# Altium footprint library 388D_Control_v1.PcbLib: 60 footprints (part 3 of 4)
Each footprint in its own frame and in the unit in brackets; x right, y up, seen from the top. Pads: shape width x height; smd on the part's side, far side on the other; paste and mask are expansions set on the pad; w line width, h text height; cw(c..) or ccw(c..) is an arc to the next point about the centre after c.
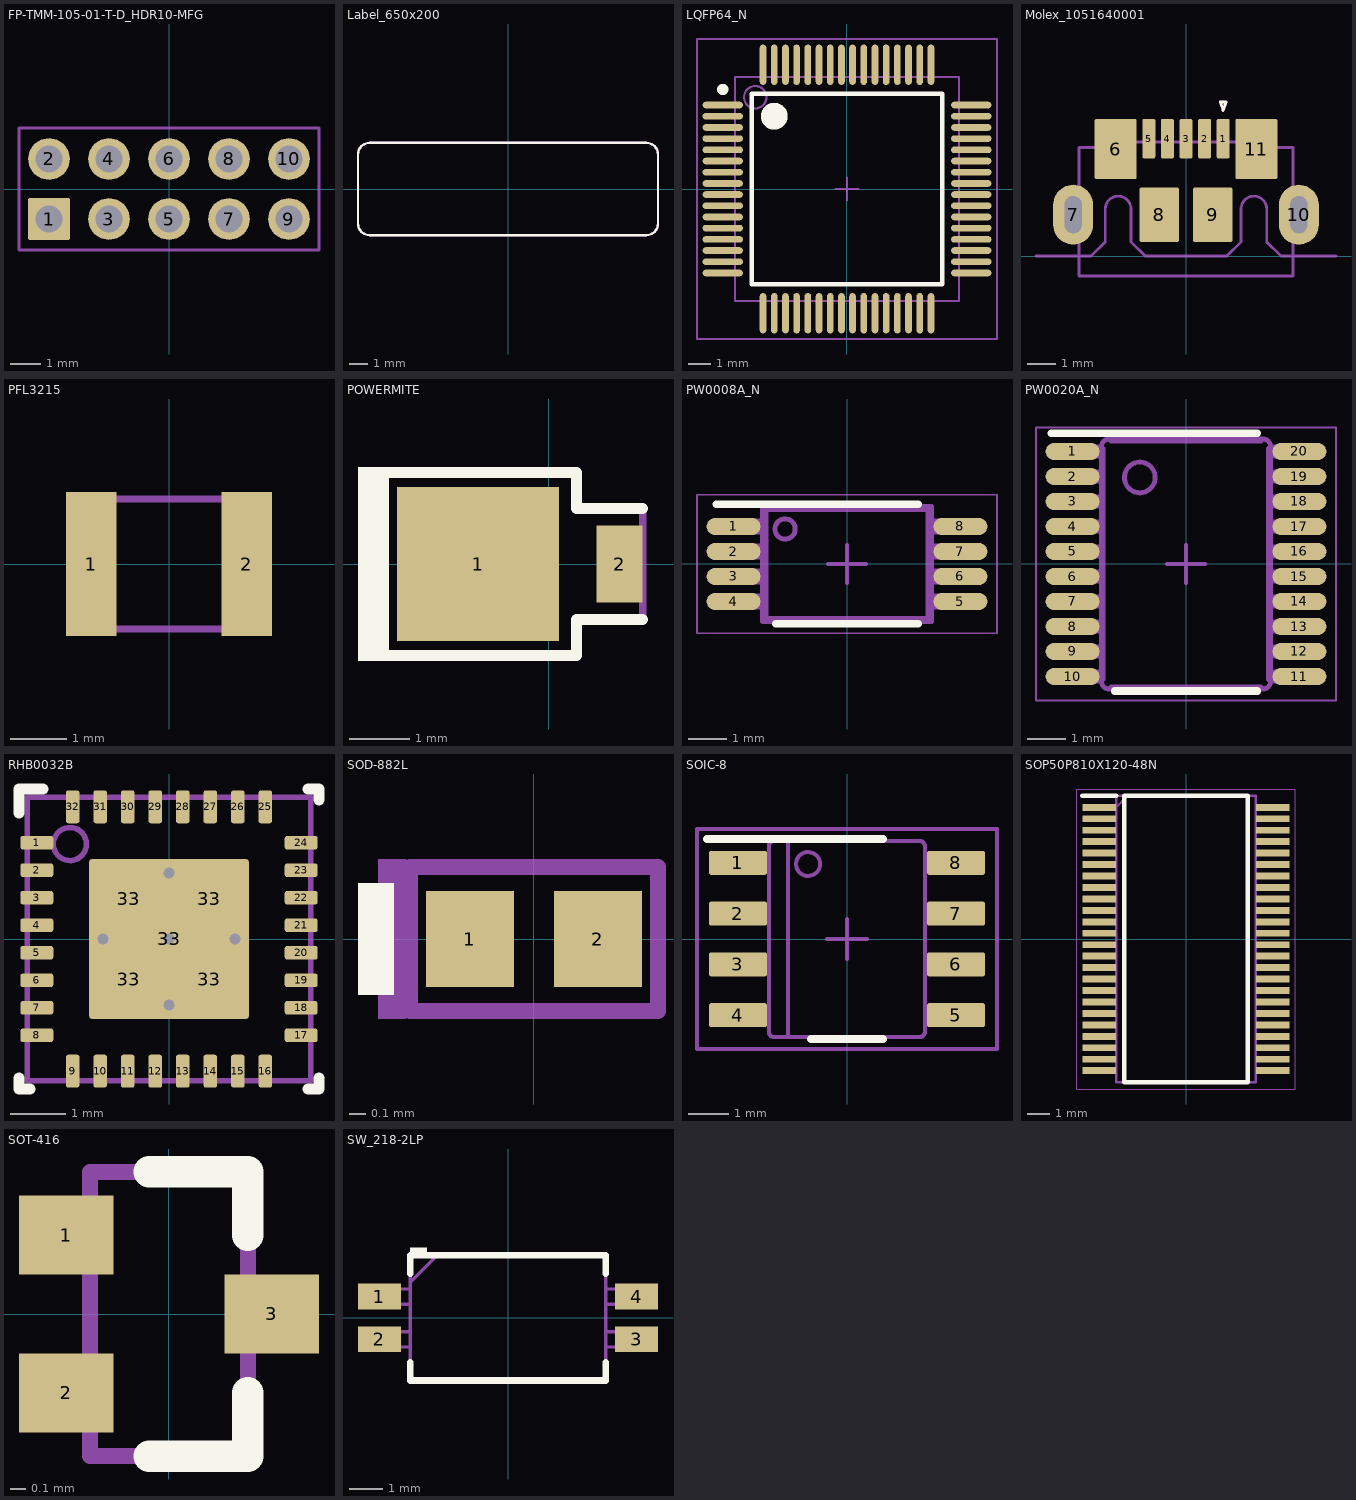
[diagram p2: the footprints below, top view; thin cyan lines are the x and y axes]

## FP-TMM-105-01-T-D_HDR10-MFG [mm]
pads (10):
  rrect7% 1.39x1.39 hole 0.89 paste-2539.97 mask+0: 1(-4,-1)
  round 1.39 hole 0.89 paste-2539.97 mask+0: 2(-4,1) 3(-2,-1) 4(-2,1) 5(0,-1) 6(0,1) 7(2,-1) 8(2,1) 9(4,-1) 10(4,1)
Mechanical 5:
  lines w0.1: -5,-2.035 5,-2.035 5,2.035 -5,2.035 -5,-2.035
  text ".Designator" at 0,0 h0.5
3D body "Conn_TMM-105-01-T-D_HDR10.STEP": height 0.25, standoff 0, extent -5.1,-2.135 5.1,2.135

## Label_650x200 [mil]
pads (1):
  round 1 on Mech13: 0(0,0)
Top Overlay:
  lines w5: -325,-75 ccw(c-300,-75) -300,-100 300,-100 ccw(c300,-75) 325,-75 325,75 ccw(c300,75) 300,100 -300,100 ccw(c-300,75) -325,75 -325,-75
Mechanical 5:
  lines w5: -325,-75 ccw(c-300,-75) -300,-100 300,-100 ccw(c300,-75) 325,-75 325,75 ccw(c300,75) 300,100 -300,100 ccw(c-300,75) -325,75 -325,-75
  text ".Designator" at -60,-20 h40
3D body: height 1, standoff 0, extent -325.02,-100.02 325.02,100.02

## LQFP64_N [mm]
pads (64):
  oval 1.8x0.3 smd: 1(-5.55,3.75) 2(-5.55,3.25) 3(-5.55,2.75) 4(-5.55,2.25) 5(-5.55,1.75) 6(-5.55,1.25) 7(-5.55,0.75) 8(-5.55,0.25) 9(-5.55,-0.25) 10(-5.55,-0.75) 11(-5.55,-1.25) 12(-5.55,-1.75) 13(-5.55,-2.25) 14(-5.55,-2.75) 15(-5.55,-3.25) 16(-5.55,-3.75) 33(5.55,-3.75) 34(5.55,-3.25) 35(5.55,-2.75) 36(5.55,-2.25) 37(5.55,-1.75) 38(5.55,-1.25) 39(5.55,-0.75) 40(5.55,-0.25) 41(5.55,0.25) 42(5.55,0.75) 43(5.55,1.25) 44(5.55,1.75) 45(5.55,2.25) 46(5.55,2.75) 47(5.55,3.25) 48(5.55,3.75)
  oval 0.3x1.8 smd: 17(-3.75,-5.55) 18(-3.25,-5.55) 19(-2.75,-5.55) 20(-2.25,-5.55) 21(-1.75,-5.55) 22(-1.25,-5.55) 23(-0.75,-5.55) 24(-0.25,-5.55) 25(0.25,-5.55) 26(0.75,-5.55) 27(1.25,-5.55) 28(1.75,-5.55) 29(2.25,-5.55) 30(2.75,-5.55) 31(3.25,-5.55) 32(3.75,-5.55) 49(3.75,5.55) 50(3.25,5.55) 51(2.75,5.55) 52(2.25,5.55) 53(1.75,5.55) 54(1.25,5.55) 55(0.75,5.55) 56(0.25,5.55) 57(-0.25,5.55) 58(-0.75,5.55) 59(-1.25,5.55) 60(-1.75,5.55) 61(-2.25,5.55) 62(-2.75,5.55) 63(-3.25,5.55) 64(-3.75,5.55)
Top Overlay:
  circle w0.6: c-3.25,3.25 r0.3
  circle w0.25: c-5.55,4.45 r0.125
  lines w0.2: -4.25,-4.25 4.25,-4.25 4.25,4.25 -4.25,4.25 -4.25,-4.25
Mechanical 5:
  circle w0.1: c-4.1,4.1 r0.5
  lines w0.1: -5,-5 5,-5 5,5 -5,5 -5,-5
  text ".Designator" at 0.745,-1.652 h1.02
Mechanical 15:
  lines w0.1: -0.5,0 0.5,0 ; 0,-0.5 0,0.5 ; -6.7,-6.7 6.7,-6.7 6.7,6.7 -6.7,6.7 -6.7,-6.7
3D body: height 1.6, standoff 0, extent -5,-5 5,5

## Molex_1051640001 [mm]
pads (11):
  rrect22% 0.45x1.38 smd: 1(1.3,4.11) 2(0.65,4.11) 3(0,4.11) 4(-0.65,4.11) 5(-1.3,4.11)
  rrect7% 1.475x2.1 smd: 6(-2.462,3.75) 11(2.462,3.75)
  rrect100% 1.4x2.1 hole 0.6 slot 1.3 at 90 deg: 7(-3.95,1.45) 10(3.95,1.45)
  rrect7% 1.375x1.9 smd: 8(-0.937,1.45) 9(0.937,1.45)
Top Overlay:
  lines w0.1: 1.2,5.4 1.4,5.4 1.3,5.1 1.2,5.4
Mechanical 1:
  lines w0.1: -5.25,0 -3.325,0 -2.825,0.5 -2.825,1.65 cw(c-2.375,1.65) -1.925,1.65 -1.925,0.5 -1.425,0 -1.4,0 1.4,0 1.425,0 1.925,0.5 1.925,1.65 cw(c2.375,1.65) 2.825,1.65 2.825,0.5 3.325,0 5.25,0
Mechanical 5:
  lines w0.1: -3.75,1 -3.871,1 -4.1,1 -4.1,1.9 -3.871,1.9 -3.75,1.9 ; -1.425,4 -1.425,4.467 -1.175,4.467 -1.175,4 ; -0.775,4 -0.775,4.467 -0.525,4.467 -0.525,4 ; -0.125,4 -0.125,4.467 0.125,4.467 0.125,4 ; 0.525,4 0.525,4.467 0.775,4.467 0.775,4 ; 1.175,4 1.175,4.467 1.425,4.467 1.425,4 ; 3.75,1 3.871,1 4.1,1 4.1,1.9 3.871,1.9 3.75,1.9 ; -3.75,-0.7 -3.633,-0.7 -3.089,-0.7 -2.806,-0.7 2.806,-0.7 3.089,-0.7 3.633,-0.7 3.75,-0.7 3.75,3.8 3.633,3.8 3.089,3.8 3,3.8 3,4 2.806,4 -2.806,4 -3,4 -3,3.8 -3.089,3.8 -3.633,3.8 -3.75,3.8 -3.75,-0.7 ; 1.2,5.4 1.3,5.1 1.4,5.4 1.2,5.4
  text ".Designator" at 0.959,2.775 h1.85
3D body "1051640001.stp": height 2.45, standoff -0.8, extent -4.1,-0.7 4.1,4.467

## PCBComponent_1 [mm]

## PCBComponent_1 - duplicate [mm]

## PFL3215 [mm]
pads (2):
  rect 0.89x2.54 smd: 1(-1.37,0) 2(1.37,0)
Mechanical 5:
  lines w0.127: -1.219,-1.143 -1.219,1.143 1.219,1.143 1.219,-1.143 -1.219,-1.143
  text ".Designator" at -0.9,-0.2 h0.51
3D body: height 1.5, standoff 0, extent -1.219,-1.142 1.219,1.142

## POWERMITE [mil]
pads (2):
  rect 105x100 smd: 1(-46,0)
  rect 30x50 smd: 2(46,0)
Top Overlay:
  rectangle: -124.01,-63 -104.01,63
  lines w7: -109.7,-59.5 -19,-59.5 18,-59.5 18,-36 61,-36 ; -109.7,59.5 -19,59.5 18,59.5 18,36 61,36
Mechanical 5:
  rectangle: -124.01,-63 -104.01,63
  lines w5: -109.7,-59.5 -19,-59.5 18,-59.5 18,-36 61,-36 61,36 18,36 18,59.5 -19,59.5 -109.7,59.5
  text ".Designator" at -90,-11 h30
3D body "PowerMite.stp": height 45.31, standoff 0, extent -94.48,-40.35 59.06,40.36

## PW0008A_N [mm]
pads (8):
  oval 1.4x0.45 smd: 1(-2.95,0.975) 2(-2.95,0.325) 3(-2.95,-0.325) 4(-2.95,-0.975) 5(2.95,-0.975) 6(2.95,-0.325) 7(2.95,0.325) 8(2.95,0.975)
Top Overlay:
  lines w0.2: -3.4,1.55 1.85,1.55 ; -1.85,-1.55 1.85,-1.55
Mechanical 5:
  lines w0.127: -2.2,-1.5 -2.2,-1.125 ; -2.2,-1.5 -2.11,-1.41 ; -2.2,-1.5 2.2,-1.5 ; -2.2,-1.125 -2.2,-0.825 ; -2.2,-1.125 -2.4,-1.125 -2.669,-1.125 -2.785,-1.125 -2.856,-1.125 -3.228,-1.125 -3.228,-0.825 -2.856,-0.825 -2.785,-0.825 -2.669,-0.825 -2.4,-0.825 -2.2,-0.825 ; -2.2,-0.825 -2.2,-0.475 ; -2.2,-0.475 -2.2,-0.175 ; -2.2,-0.475 -2.4,-0.475 -2.669,-0.475 -2.785,-0.475 -2.856,-0.475 -3.228,-0.475 -3.228,-0.175 -2.856,-0.175 -2.785,-0.175 -2.669,-0.175 -2.4,-0.175 -2.2,-0.175 ; -2.2,-0.175 -2.2,0.175 ; -2.2,0.175 -2.4,0.175 -2.669,0.175 -2.785,0.175 -2.856,0.175 -3.228,0.175 -3.228,0.475 -2.856,0.475 -2.785,0.475 -2.669,0.475 -2.4,0.475 -2.2,0.475 ; -2.2,0.175 -2.2,0.475 ; -2.2,0.475 -2.2,0.825 ; -2.2,0.825 -2.4,0.825 -2.669,0.825 -2.785,0.825 -2.856,0.825 -3.228,0.825 -3.228,1.125 -2.856,1.125 -2.785,1.125 -2.669,1.125 -2.4,1.125 -2.2,1.125 ; -2.2,0.825 -2.2,1.125 ; -2.2,1.125 -2.2,1.5 ; -2.2,1.5 -2.11,1.41 ; -2.2,1.5 2.2,1.5 ; -2.11,-1.41 -2.11,1.41 ; -2.11,-1.41 2.11,-1.41 ; -2.11,1.41 2.11,1.41 ; 2.11,-1.41 2.11,1.41 ; 2.11,-1.41 2.2,-1.5 ; 2.11,1.41 2.2,1.5 ; 2.2,-1.5 2.2,-1.125 ; 2.2,-1.125 2.2,-0.825 ; 2.2,-1.125 2.4,-1.125 2.669,-1.125 2.785,-1.125 2.856,-1.125 3.228,-1.125 3.228,-0.825 2.856,-0.825 2.785,-0.825 2.669,-0.825 2.4,-0.825 2.2,-0.825 ; 2.2,-0.825 2.2,-0.475 ; 2.2,-0.475 2.2,-0.175 ; 2.2,-0.475 2.4,-0.475 2.669,-0.475 2.785,-0.475 2.856,-0.475 3.228,-0.475 3.228,-0.175 2.856,-0.175 2.785,-0.175 2.669,-0.175 2.4,-0.175 2.2,-0.175 ; 2.2,-0.175 2.2,0.175 ; 2.2,0.175 2.2,0.475 ; 2.2,0.175 2.4,0.175 2.669,0.175 2.785,0.175 2.856,0.175 3.228,0.175 3.228,0.475 2.856,0.475 2.785,0.475 2.669,0.475 2.4,0.475 2.2,0.475 ; 2.2,0.475 2.2,0.825 ; 2.2,0.825 2.2,1.125 ; 2.2,0.825 2.4,0.825 2.669,0.825 2.785,0.825 2.856,0.825 3.228,0.825 3.228,1.125 2.856,1.125 2.785,1.125 2.669,1.125 2.4,1.125 2.2,1.125 ; 2.2,1.125 2.2,1.5 ; -1.61,0.646 cw(c-1.61,0.91) -1.61,1.173 cw(c-1.61,0.91) -1.61,0.646
  text ".Designator" at -1.85,-1 h1.02
Mechanical 15:
  lines w0.05: -3.9,-1.8 -3.9,1.8 3.9,1.8 3.9,-1.8 -3.9,-1.8
  lines w0.1: -0.5,0 0.5,0 ; 0,-0.5 0,0.5
3D body "PW0008A.stp": height 1.2, standoff 0, extent -3.208,-1.5 3.208,1.5

## PW0020A_N [mm]
pads (20):
  oval 1.4x0.45 smd: 1(-2.95,2.925) 2(-2.95,2.275) 3(-2.95,1.625) 4(-2.95,0.975) 5(-2.95,0.325) 6(-2.95,-0.325) 7(-2.95,-0.975) 8(-2.95,-1.625) 9(-2.95,-2.275) 10(-2.95,-2.925) 11(2.95,-2.925) 12(2.95,-2.275) 13(2.95,-1.625) 14(2.95,-0.975) 15(2.95,-0.325) 16(2.95,0.325) 17(2.95,0.975) 18(2.95,1.625) 19(2.95,2.275) 20(2.95,2.925)
Top Overlay:
  lines w0.2: -3.5,3.4 1.85,3.4
Top Overlay keep-out:
  lines w0.2: -1.85,-3.3 1.85,-3.3
Mechanical 5:
  drawing of 254 lines, arcs and shapes, not listed
  text ".Designator" at -0.45,1.8 h1.02
Mechanical 15:
  lines w0.05: -3.9,-3.55 3.9,-3.55 3.9,3.55 -3.9,3.55 -3.9,-3.55
  lines w0.1: -0.5,0 0.5,0 ; 0,-0.5 0,0.5
3D body "PW0020A.stp": height 1, standoff 0, extent -3.21,-3.25 3.21,3.25

## RHB0032B [mm]
pads (37):
  rrect40% 0.6x0.25 smd: 1(-2.4,1.75) 2(-2.4,1.25) 3(-2.4,0.75) 4(-2.4,0.25) 5(-2.4,-0.25) 6(-2.4,-0.75) 7(-2.4,-1.25) 8(-2.4,-1.75) 17(2.4,-1.75) 18(2.4,-1.25) 19(2.4,-0.75) 20(2.4,-0.25) 21(2.4,0.25) 22(2.4,0.75) 23(2.4,1.25) 24(2.4,1.75)
  rrect40% 0.25x0.6 smd: 9(-1.75,-2.4) 10(-1.25,-2.4) 11(-0.75,-2.4) 12(-0.25,-2.4) 13(0.25,-2.4) 14(0.75,-2.4) 15(1.25,-2.4) 16(1.75,-2.4) 25(1.75,2.4) 26(1.25,2.4) 27(0.75,2.4) 28(0.25,2.4) 29(-0.25,2.4) 30(-0.75,2.4) 31(-1.25,2.4) 32(-1.75,2.4)
  rrect50% 1.27x1.27 on Top Paste: 33(-0.735,-0.735) 33(-0.735,0.735) 33(0.735,-0.735) 33(0.735,0.735)
  rrect3% 2.9x2.9 smd paste-1.725: 33(0,0)
via 1.2,0 diameter 0.5 hole 0.2
via 0,0 diameter 0.5 hole 0.2
via -1.2,0 diameter 0.5 hole 0.2
via 0,1.2 diameter 0.5 hole 0.2
via 0,-1.2 diameter 0.5 hole 0.2
Top Overlay:
  lines w0.2: -2.725,-2.525 -2.725,-2.725 -2.525,-2.725 ; -2.725,2.29 -2.725,2.725 -2.29,2.725 ; 2.525,-2.725 2.725,-2.725 2.725,-2.525 ; 2.525,2.725 2.725,2.725 2.725,2.525
Mechanical 5:
  circle w0.1: c-1.8,1.725 r0.3
  lines w0.1: -2.575,-2.575 2.575,-2.575 2.575,2.575 -2.575,2.575 -2.575,-2.575
  text ".Designator" at 1.81,0.632 h1.02
3D body: height 1, standoff 0, extent -2.575,-2.575 2.575,2.575
3D body: height 1.01, standoff 0.5, extent -2.099,1.426 -1.501,2.024

## SOD-882L [mm]
pads (2):
  rect 0.55x0.6 smd: 1(-0.4,0)
  rect 0.55x0.6 smd paste-0.05: 2(0.4,0)
Top Overlay:
  rectangle: -1.1,-0.35 -0.875,0.35
Mechanical 5:
  rectangle: -0.975,-0.5 -0.8,0.5
  lines w0.1: -0.775,-0.45 0.775,-0.45 0.775,0.45 -0.775,0.45 -0.775,-0.45
  text ".Designator" at 0.176,0.206 h0.3
3D body: height 0.4, standoff 0, extent -0.524,-0.324 0.524,0.324
3D body: height 0.41, standoff 0.4, extent -0.524,-0.324 -0.101,0.324

## SOIC-8 [mm]
pads (8):
  rrect17% 1.45x0.6 smd: 1(-2.725,1.905) 2(-2.725,0.635) 3(-2.725,-0.635) 4(-2.725,-1.905) 5(2.725,-1.905) 6(2.725,-0.635) 7(2.725,0.635) 8(2.725,1.905)
Top Overlay:
  lines w0.2: -3.5,2.5 0.9,2.5 ; -0.9,-2.5 0.9,-2.5
Mechanical 5:
  circle w0.1: c-0.975,1.875 r0.3
  lines w0.1: -1.475,-2.45 -1.475,2.45 ; -2.375,-2.095 -2.375,-1.715 ; -2.375,-2.095 -1.995,-2.095 -1.952,-2.095 -1.952,-1.715 -1.995,-1.715 -2.375,-1.715 ; -2.375,-2.095 -2.589,-2.095 -3.002,-2.095 -3.002,-1.715 -2.589,-1.715 -2.375,-1.715 ; -2.375,-0.825 -1.995,-0.825 -1.952,-0.825 -1.952,-0.445 -1.995,-0.445 -2.375,-0.445 ; -2.375,-0.825 -2.375,-0.445 ; -2.375,-0.825 -2.589,-0.825 -3.002,-0.825 -3.002,-0.445 -2.589,-0.445 -2.375,-0.445 ; -2.375,0.445 -1.995,0.445 -1.952,0.445 -1.952,0.825 -1.995,0.825 -2.375,0.825 ; -2.375,0.445 -2.589,0.445 -3.002,0.445 -3.002,0.825 -2.589,0.825 -2.375,0.825 ; -2.375,0.445 -2.375,0.825 ; -2.375,1.715 -2.375,2.095 ; -2.375,1.715 -1.995,1.715 -1.952,1.715 -1.952,2.095 -1.995,2.095 -2.375,2.095 ; -2.375,1.715 -2.589,1.715 -3.002,1.715 -3.002,2.095 -2.589,2.095 -2.375,2.095 ; -0.332,-2.45 -0.182,-2.45 ; -0.332,-2.45 -0.182,-2.45 ; -0.332,-2.45 -1.825,-2.45 -1.826,-2.45 cw(c-1.825,-2.323) -1.952,-2.324 -1.952,-2.323 -1.952,2.323 -1.952,2.324 cw(c-1.825,2.323) -1.826,2.45 -1.825,2.45 -0.332,2.45 ; -0.332,2.45 -0.182,2.45 ; -0.332,2.45 -0.182,2.45 ; -0.182,-2.45 0.178,-2.45 ; -0.182,2.45 0.178,2.45 ; 0.178,-2.45 0.328,-2.45 ; 0.178,-2.45 0.328,-2.45 ; 0.178,2.45 0.328,2.45 ; 0.178,2.45 0.328,2.45 ; 0.328,-2.45 1.821,-2.45 1.822,-2.45 ccw(c1.821,-2.323) 1.948,-2.324 1.948,-2.323 1.948,2.323 1.948,2.324 ccw(c1.821,2.323) 1.822,2.45 1.821,2.45 0.328,2.45 ; 2.371,-2.095 2.371,-1.715 ; 2.371,-2.095 2.585,-2.095 2.998,-2.095 2.998,-1.715 2.585,-1.715 2.371,-1.715 ; 2.371,-2.095 1.991,-2.095 1.948,-2.095 1.948,-1.715 1.991,-1.715 2.371,-1.715 ; 2.371,-0.825 2.371,-0.445 ; 2.371,-0.825 2.585,-0.825 2.998,-0.825 2.998,-0.445 2.585,-0.445 2.371,-0.445 ; 2.371,-0.825 1.991,-0.825 1.948,-0.825 1.948,-0.445 1.991,-0.445 2.371,-0.445 ; 2.371,0.445 2.585,0.445 2.998,0.445 2.998,0.825 2.585,0.825 2.371,0.825 ; 2.371,0.445 1.991,0.445 1.948,0.445 1.948,0.825 1.991,0.825 2.371,0.825 ; 2.371,0.445 2.371,0.825 ; 2.371,1.715 2.585,1.715 2.998,1.715 2.998,2.095 2.585,2.095 2.371,2.095 ; 2.371,1.715 1.991,1.715 1.948,1.715 1.948,2.095 1.991,2.095 2.371,2.095 ; 2.371,1.715 2.371,2.095
  text ".Designator" at 0.611,-1.684 h0.89
Mechanical 15:
  lines w0.1: -0.5,0 0.5,0 ; 0,-0.5 0,0.5 ; -3.75,-2.75 3.75,-2.75 3.75,2.75 -3.75,2.75 -3.75,-2.75
3D body "SOIC-8akaD0008AakaM08A.stp": height 1.63, standoff 0, extent -3,-2.45 3,2.45

## SOP50P810X120-48N [mm]
pads (48):
  rect 1.475x0.3 smd: 1(-3.788,5.75) 2(-3.788,5.25) 3(-3.788,4.75) 4(-3.788,4.25) 5(-3.788,3.75) 6(-3.788,3.25) 7(-3.788,2.75) 8(-3.788,2.25) 9(-3.788,1.75) 10(-3.788,1.25) 11(-3.788,0.75) 12(-3.788,0.25) 13(-3.788,-0.25) 14(-3.788,-0.75) 15(-3.788,-1.25) 16(-3.788,-1.75) 17(-3.788,-2.25) 18(-3.788,-2.75) 19(-3.788,-3.25) 20(-3.788,-3.75) 21(-3.788,-4.25) 22(-3.788,-4.75) 23(-3.788,-5.25) 24(-3.788,-5.75) 25(3.788,-5.75) 26(3.788,-5.25) 27(3.788,-4.75) 28(3.788,-4.25) 29(3.788,-3.75) 30(3.788,-3.25) 31(3.788,-2.75) 32(3.788,-2.25) 33(3.788,-1.75) 34(3.788,-1.25) 35(3.788,-0.75) 36(3.788,-0.25) 37(3.788,0.25) 38(3.788,0.75) 39(3.788,1.25) 40(3.788,1.75) 41(3.788,2.25) 42(3.788,2.75) 43(3.788,3.25) 44(3.788,3.75) 45(3.788,4.25) 46(3.788,4.75) 47(3.788,5.25) 48(3.788,5.75)
Top Overlay:
  lines w0.2: -4.525,6.25 -3.05,6.25 ; -2.7,-6.25 2.7,-6.25 2.7,6.25 -2.7,6.25 -2.7,-6.25
Mechanical 13:
  lines w0.1: -3.05,5.75 -2.55,6.25 ; -3.05,-6.25 3.05,-6.25 3.05,6.25 -3.05,6.25 -3.05,-6.25
Mechanical 15:
  lines w0.05: -4.775,-6.55 4.775,-6.55 4.775,6.55 -4.775,6.55 -4.775,-6.55
3D body "SN74LVCH16T245DGGR.stp": height 1.1, standoff 0, extent -4.06,-6.25 4.06,6.25

## SOT-416 [mm]
pads (3):
  rect 0.6x0.5 smd: 1(-0.65,0.5) 2(-0.65,-0.5) 3(0.65,0)
Top Overlay:
  lines w0.2: -0.125,-0.9 0.359,-0.9 0.5,-0.9 0.5,-0.5 ; -0.125,0.9 0.359,0.9 0.5,0.9 0.5,0.5
Mechanical 5:
  lines w0.1: -0.551,-0.6 -0.6,-0.6 -0.65,-0.6 -0.8,-0.6 -0.8,-0.4 -0.65,-0.4 -0.6,-0.4 -0.551,-0.4 ; -0.551,0.4 -0.6,0.4 -0.65,0.4 -0.8,0.4 -0.8,0.6 -0.65,0.6 -0.6,0.6 -0.551,0.6 ; -0.5,-0.6 -0.5,-0.9 -0.359,-0.9 0.359,-0.9 0.5,-0.9 0.5,-0.1 ; -0.5,-0.4 -0.5,0.4 ; -0.5,0.6 -0.5,0.9 -0.359,0.9 0.359,0.9 0.5,0.9 0.5,0.1 ; 0.551,-0.1 0.6,-0.1 0.65,-0.1 0.8,-0.1 0.8,0.1 0.65,0.1 0.6,0.1 0.551,0.1
  text ".Designator" at -0.175,0.725 h0.4
3D body "SOT-416.stp": height 0.82, standoff 0.02, extent -0.8,-0.9 0.8,0.9

## SW_218-2LP [mm]
pads (4):
  rect 1.27x0.76 smd: 1(-3.81,0.635) 2(-3.81,-0.635) 3(3.81,-0.635) 4(3.81,0.635)
Top Overlay:
  rectangle: -2.9,1.855 -2.4,2.09
  lines w0.2: -2.9,-1.31 -2.9,-1.855 2.9,-1.855 2.9,-1.31 ; -2.9,1.31 -2.9,1.855 2.9,1.855 2.9,1.31
Mechanical 5:
  lines w0.1: -2.9,-0.86 -3.22,-0.86 ; -2.9,-0.41 -3.22,-0.41 ; -2.9,0.41 -3.22,0.41 ; -2.9,0.86 -3.22,0.86 ; 2.9,-0.86 3.22,-0.86 ; 2.9,-0.41 3.22,-0.41 ; 2.9,0.41 3.22,0.41 ; 2.9,0.86 3.22,0.86 ; -3.79,-0.86 -3.79,-0.41 ; -3.79,-0.86 -3.661,-0.86 ; -3.79,-0.86 -4.22,-0.86 -4.22,-0.41 -3.79,-0.41 ; -3.79,-0.41 -3.661,-0.41 ; -3.79,0.41 -3.661,0.41 ; -3.79,0.41 -3.79,0.86 ; -3.79,0.41 -4.22,0.41 -4.22,0.86 -3.79,0.86 ; -3.79,0.86 -3.661,0.86 ; -3.661,-0.86 -3.661,-0.41 ; -3.661,-0.86 -3.349,-0.86 ; -3.661,-0.41 -3.349,-0.41 ; -3.661,0.41 -3.661,0.86 ; -3.661,0.41 -3.349,0.41 ; -3.661,0.86 -3.349,0.86 ; -3.349,-0.86 -3.22,-0.86 ; -3.349,-0.86 -3.349,-0.41 ; -3.349,-0.41 -3.22,-0.41 ; -3.349,0.41 -3.22,0.41 ; -3.349,0.41 -3.349,0.86 ; -3.349,0.86 -3.22,0.86 ; -3.22,-0.86 -3.22,-0.41 ; -3.22,0.41 -3.22,0.86 ; -2.9,1.055 -2.9,1.855 -2.1,1.855 ; -2.9,1.055 -2.1,1.855 ; -2.9,1.055 -2.9,-1.855 2.1,-1.855 2.9,-1.855 2.9,-1.055 2.9,1.855 -2.1,1.855 ; 3.22,-0.86 3.22,-0.41 ; 3.22,-0.86 3.349,-0.86 ; 3.22,-0.41 3.349,-0.41 ; 3.22,0.41 3.349,0.41 ; 3.22,0.41 3.22,0.86 ; 3.22,0.86 3.349,0.86 ; 3.349,-0.86 3.661,-0.86 ; 3.349,-0.86 3.349,-0.41 ; 3.349,-0.41 3.661,-0.41 ; 3.349,0.41 3.661,0.41 ; 3.349,0.41 3.349,0.86 ; 3.349,0.86 3.661,0.86 ; 3.661,-0.86 3.661,-0.41 ; 3.661,-0.86 3.79,-0.86 ; 3.661,-0.41 3.79,-0.41 ; 3.661,0.41 3.79,0.41 ; 3.661,0.41 3.661,0.86 ; 3.661,0.86 3.79,0.86 ; 3.79,-0.86 4.22,-0.86 4.22,-0.41 3.79,-0.41 ; 3.79,-0.86 3.79,-0.41 ; 3.79,0.41 3.79,0.86 ; 3.79,0.41 4.22,0.41 4.22,0.86 3.79,0.86
  text "1" at -2.4,1.2 h1
  text ".Designator" at -2.3,-0.5 h1.02
3D body: height 2.62, standoff 0, extent -4.22,-1.855 4.22,1.855